# Altium footprint library TPD4E05U06DQAR.PcbLib: 1 footprints
Each footprint in its own frame and in the unit in brackets; x right, y up, seen from the top. Pads: shape width x height; smd on the part's side, far side on the other; paste and mask are expansions set on the pad; w line width, h text height; cw(c..) or ccw(c..) is an arc to the next point about the centre after c.
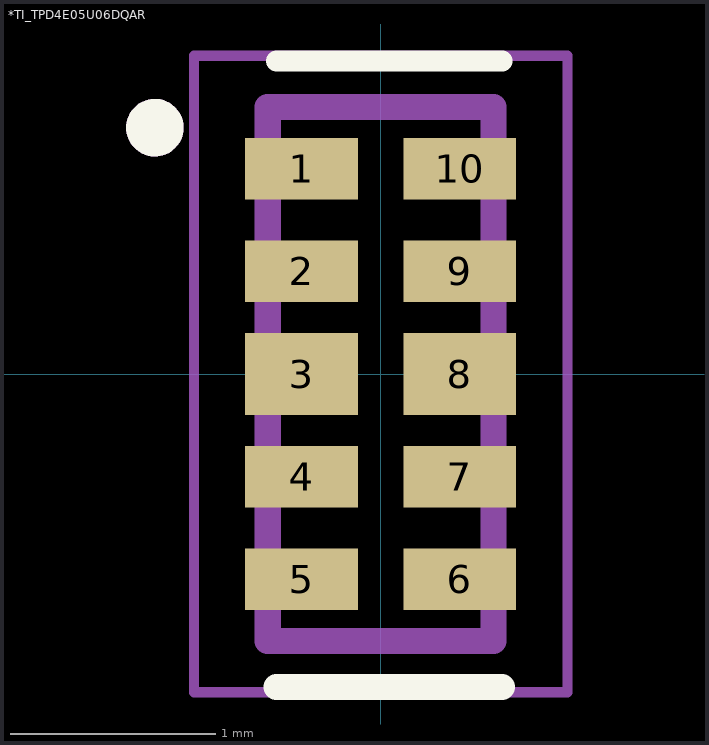
[diagram p0: the footprint, top view; thin cyan lines are the x and y axes]

## *TI_TPD4E05U06DQAR [mm]
pads (10):
  rect 0.55x0.3 smd: 1(-0.385,1) 2(-0.385,0.5) 4(-0.385,-0.5) 5(-0.385,-1) 6(0.385,-1) 7(0.385,-0.5) 9(0.385,0.5) 10(0.385,1)
  rect 0.55x0.4 smd: 3(-0.385,0) 8(0.385,0)
Top Overlay:
  circle w0.14: c-1.1,1.2 r0.07
  lines w0.102: -0.508,1.524 0.592,1.524
  lines w0.127: -0.508,-1.524 0.592,-1.524
Mechanical 4:
  circle w0.14: c-1.1,1.2 r0.07
  circle w0.14: c-1.1,1.2 r0.07
  lines w0.127: -0.55,-1.3 -0.55,1.3 ; -0.55,-1.3 0.55,-1.3 ; -0.55,-1.3 -0.55,1.3 ; -0.55,-1.3 0.55,-1.3 ; -0.55,1.3 0.55,1.3 ; -0.55,1.3 0.55,1.3 ; 0.55,-1.3 0.55,1.3 ; 0.55,-1.3 0.55,1.3
Courtyard Bottom:
  lines w0.05: -0.91,-1.55 -0.91,1.55 0.91,1.55 0.91,-1.55 -0.91,-1.55
3D body: height 0.55, standoff 0, extent -0.5,-1.25 0.5,1.25